# Altium schematic symbol library CD74HC4067M.SchLib: 1 symbol
Pins are listed as number, name and electrical type; pins without a type are passive.

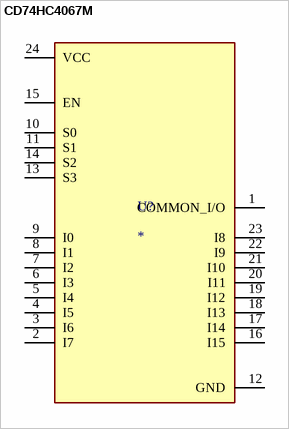
[diagram p0: symbol CD74HC4067M]

## CD74HC4067M
designator U?
5-V, 16:1, 1-channel analog multiplexer; MP: CD74HC4067M; Value: *; Availability: Unavailable; Package: None; Price: None
footprint CD74HC4067M
pins: 1 COMMON_I/O (power), 2 I7 (power), 3 I6 (power), 4 I5 (power), 5 I4 (power), 6 I3 (power), 7 I2 (power), 8 I1 (power), 9 I0 (power), 10 S0 (power), 11 S1 (power), 12 GND (power), 13 S3 (power), 14 S2 (power), 15 EN (power), 16 I15 (power), 17 I14 (power), 18 I13 (power), 19 I12 (power), 20 I11 (power), 21 I10 (power), 22 I9 (power), 23 I8 (power), 24 VCC (power)